# Altium schematic symbol library Voltage Regulator.SchLib: 19 symbols
Pins are listed as number, name and electrical type; pins without a type are passive.

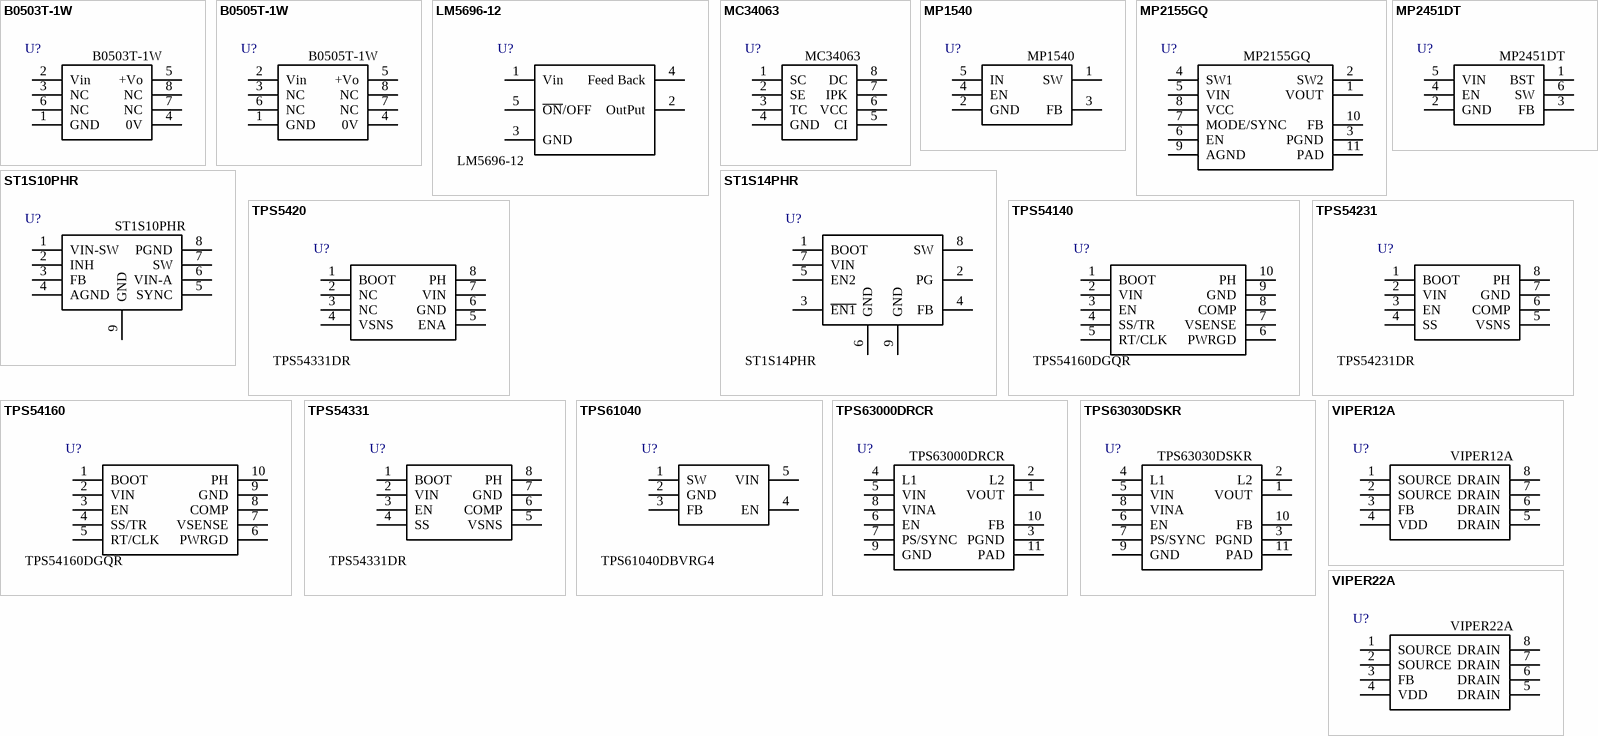
[diagram p0: symbols B0503T-1W to VIPER22A]

## B0503T-1W
designator U?
Power; Manufacture: MORNSUN; Size: B0505T; Mount type: SMT; Value: B0503T-1W
footprint B0505T
pins: 1 GND, 2 Vin, 3 NC, 4 0V, 5 +Vo, 6 NC, 7 NC, 8 NC

## B0505T-1W
designator U?
Power; Manufacture: MORNSUN; Size: B0505T; Mount type: SMT; Value: B0505T-1W
footprint B0505T
pins: 1 GND, 2 Vin, 3 NC, 4 0V, 5 +Vo, 6 NC, 7 NC, 8 NC

## LM5696-12
designator U?  Global part number: LM5696-12
Voltage Regulator; Manufacture: Texas Instruments; Size: D2PAK(TO263-5); Mount type: SMT
footprint D2PAK(TO263-5)
pins: 1 Vin, 2 OutPut, 3 GND, 4 Feed Back, 5 ~{ON}/OFF

## MC34063
designator U?  Global part number: MC34063
Voltage Regulator; Manufacture: STMicroelectronics; Mount type: SMT; Size: SOIC-8
footprint SOIC-8
pins: 1 SC, 2 SE, 3 TC, 4 GND, 5 CI, 6 VCC, 7 IPK, 8 DC

## MP1540
designator U?  Global part number: MP1540
Voltage Regulator; Manufacture: MPS; Mount type: SMT; Size: SOT23-5
footprint SOT23-5
pins: 1 SW, 2 GND, 3 FB, 4 EN, 5 IN

## MP2155GQ
designator U?  Global part number: MP2155GQ
Voltage Regulator; Manufacture: Texas Instruments; Size: SON-10 3*3; Mount type: SMT
pins: 1 VOUT, 2 SW2, 3 PGND, 4 SW1, 5 VIN, 6 EN, 7 MODE/SYNC, 8 VCC, 9 AGND, 10 FB, 11 PAD

## MP2451DT
designator U?  Global part number: MP2451DT
Voltage Regulator; Manufacture: MPS; Mount type: SMT; Size: SOT23-6
footprint SOT23-6
pins: 1 BST, 2 GND, 3 FB, 4 EN, 5 VIN, 6 SW

## ST1S10PHR
designator U?
Voltage Regulator; Manufacture: STMicroelectronics; Value: ST1S10PHR
footprint SOIC-8 Exposed Pad
pins: 1 VIN-SW, 2 INH, 3 FB, 4 AGND, 5 SYNC, 6 VIN-A, 7 SW, 8 PGND, 9 GND

## ST1S14PHR
designator U?  Global part number: ST1S14PHR
Voltage Regulator; Manufacture: STMicroelectronics; Mount type: SMT; Size: SOIC-8 Exposed Pad
footprint SOIC-8 Exposed Pad
pins: 1 BOOT, 2 PG, 3 ~{EN1}, 4 FB, 5 EN2, 6 GND, 7 VIN, 8 SW, 9 GND

## TPS5420
designator U?  Global part number: TPS54331DR
Voltage Regulator; Manufacture: Texas Instruments; Size: SOIC-8; Mount type: SMT
footprint SOIC-8
pins: 1 BOOT, 2 NC, 3 NC, 4 VSNS, 5 ENA, 6 GND, 7 VIN, 8 PH

## TPS54140
designator U?  Global part number: TPS54160DGQR
Voltage Regulator; Manufacture: Texas Instruments; Size: MSSOP-10; Mount type: SMT
footprint MSOP-10
pins: 1 BOOT, 2 VIN, 3 EN, 4 SS/TR, 5 RT/CLK, 6 PWRGD, 7 VSENSE, 8 COMP, 9 GND, 10 PH

## TPS54160
designator U?  Global part number: TPS54160DGQR
Voltage Regulator; Manufacture: Texas Instruments; Size: MSSOP-10; Mount type: SMT
footprint MSOP-10
pins: 1 BOOT, 2 VIN, 3 EN, 4 SS/TR, 5 RT/CLK, 6 PWRGD, 7 VSENSE, 8 COMP, 9 GND, 10 PH

## TPS54231
designator U?  Global part number: TPS54231DR
Voltage Regulator; Manufacture: Texas Instruments; Size: SOIC-8; Mount type: SMT
footprint SOIC-8
pins: 1 BOOT, 2 VIN, 3 EN, 4 SS, 5 VSNS, 6 COMP, 7 GND, 8 PH

## TPS54331
designator U?  Global part number: TPS54331DR
Voltage Regulator; Manufacture: Texas Instruments; Size: SOIC-8; Mount type: SMT
footprint SOIC-8
pins: 1 BOOT, 2 VIN, 3 EN, 4 SS, 5 VSNS, 6 COMP, 7 GND, 8 PH

## TPS61040
designator U?  Global part number: TPS61040DBVRG4
Voltage Regulator; Manufacture: Texas Instruments; Size: SOT23-5; Mount type: SMT
footprint SOT23-5
pins: 1 SW, 2 GND, 3 FB, 4 EN, 5 VIN

## TPS63000DRCR
designator U?  Global part number: TPS63000DRCR
Voltage Regulator; Manufacture: Texas Instruments; Size: SON-10 3*3; Mount type: SMT
pins: 1 VOUT, 2 L2, 3 PGND, 4 L1, 5 VIN, 6 EN, 7 PS/SYNC, 8 VINA, 9 GND, 10 FB, 11 PAD

## TPS63030DSKR
designator U?  Global part number: TPS63030DSKR
Voltage Regulator; Manufacture: Texas Instruments; Size: SON-10 3*3; Mount type: SMT
pins: 1 VOUT, 2 L2, 3 PGND, 4 L1, 5 VIN, 6 EN, 7 PS/SYNC, 8 VINA, 9 GND, 10 FB, 11 PAD

## VIPER12A
designator U?  Global part number: VIPER12A
Voltage Regulator; Manufacture: STMicroelectronics; Size: SOIC-8; Mount type: SMT
footprint SOIC-8
pins: 1 SOURCE, 2 SOURCE, 3 FB, 4 VDD, 5 DRAIN, 6 DRAIN, 7 DRAIN, 8 DRAIN

## VIPER22A
designator U?  Global part number: VIPER22A
Voltage Regulator; Manufacture: STMicroelectronics; Size: SOIC-8; Mount type: SMT
footprint SOIC-8
pins: 1 SOURCE, 2 SOURCE, 3 FB, 4 VDD, 5 DRAIN, 6 DRAIN, 7 DRAIN, 8 DRAIN